# Altium footprint library buttons.PcbLib: 16 footprints
Each footprint in its own frame and in the unit in brackets; x right, y up, seen from the top. Pads: shape width x height; smd on the part's side, far side on the other; paste and mask are expansions set on the pad; w line width, h text height; cw(c..) or ccw(c..) is an arc to the next point about the centre after c.
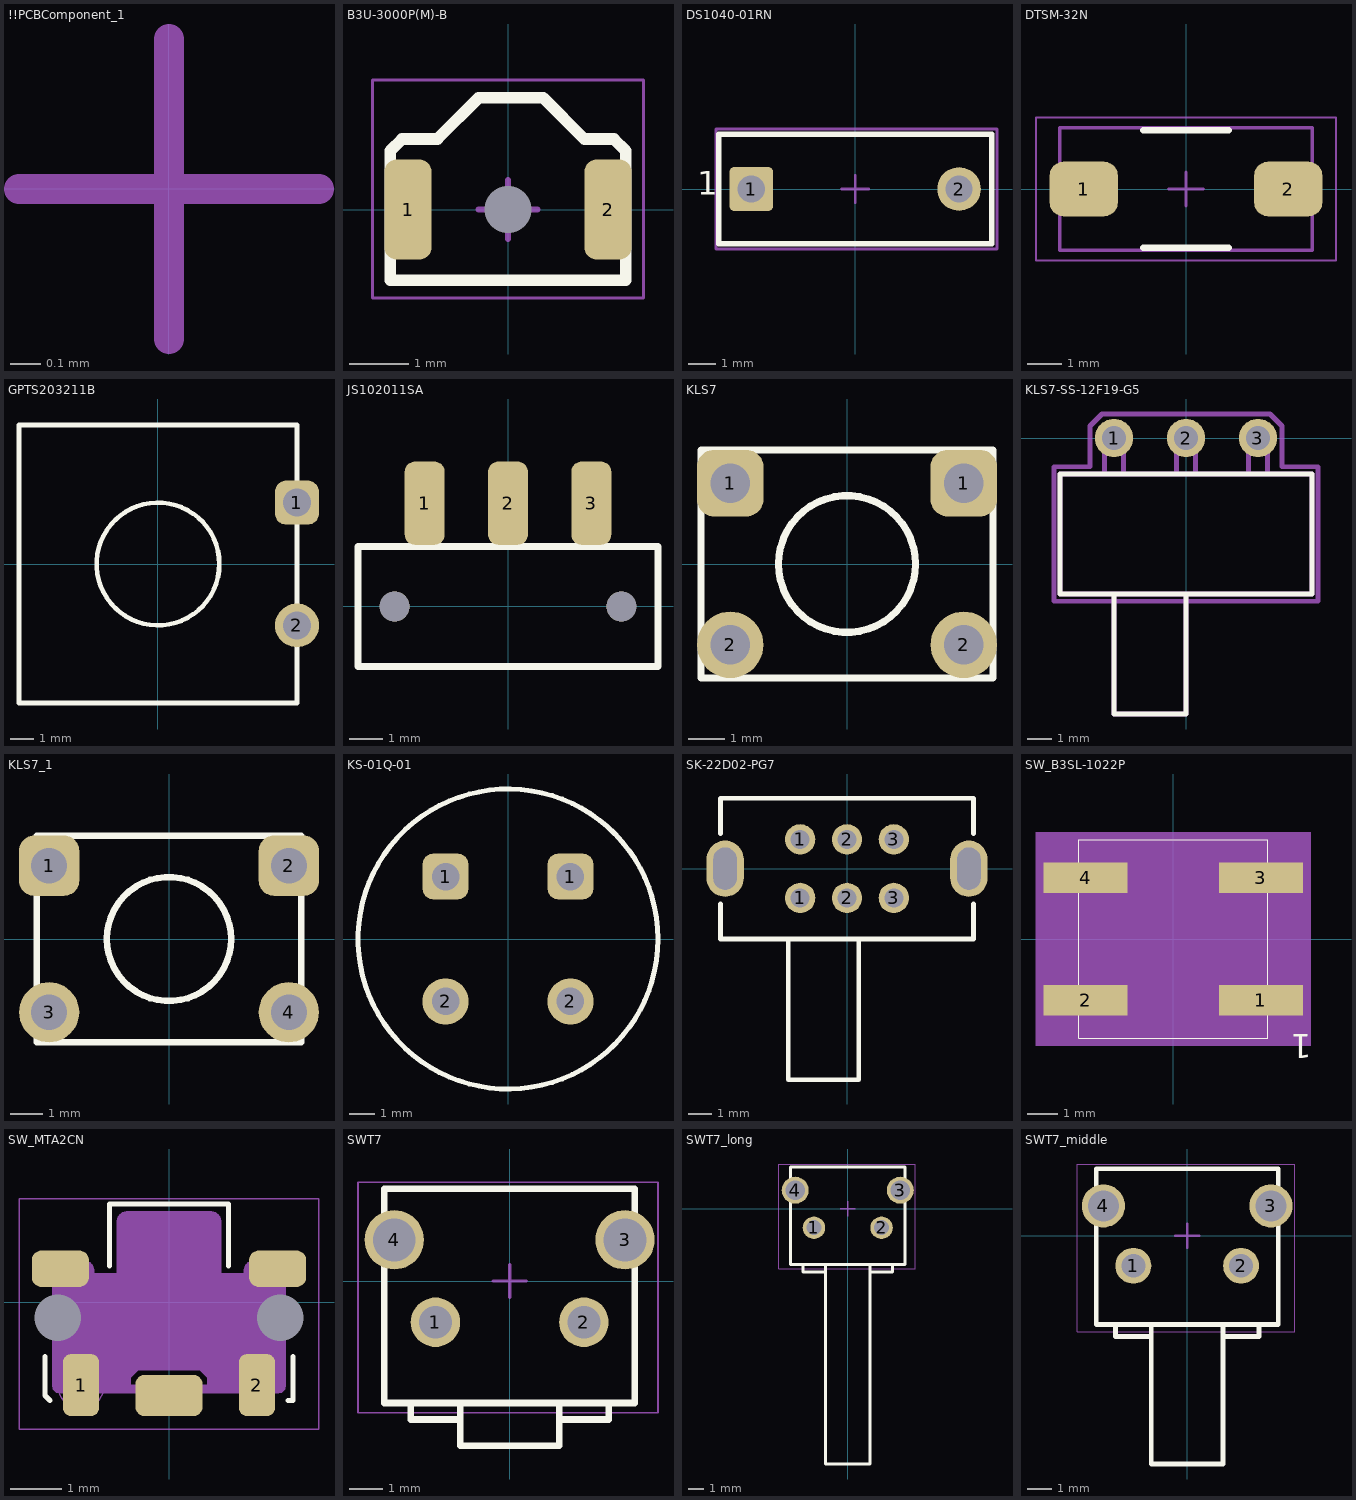
[diagram p0: the footprints below, top view; thin cyan lines are the x and y axes]

## !!PCBComponent_1 [mm]
M3_comm_top:
  text ".comment" at -0.9,-0.3 h1
M5_asm_top:
  text ".Designator" at -1,1.3 h1
M7_courtyard_top:
  lines w0.1: -0.5,0 0.5,0 ; 0,-0.5 0,0.5

## B3U-3000P(M)-B [mm] "B3U-3000P(M)-B"
height 1
pads (3):
  rrect50% 0.8x1.7 smd: 1(-1.7,0) 2(1.7,0)
  round 0.75 hole 0.8 unplated: ""(0,0)
Top Overlay:
  lines w0.2: -2,-1.2 -2,1 -1.8,1.2 -1.2,1.2 -0.5,1.9 0.6,1.9 1.3,1.2 1.8,1.2 2,1 2,-1.2 -2,-1.2
Mechanical 13:
  lines w0.1: -2,-1.2 2,-1.2 2,1 1.8,1.2 1.3,1.2 0.6,1.9 -0.5,1.9 -1.2,1.2 -1.8,1.2 -2,1 -2,-1.2
Mechanical 15:
  lines w0.05: -2.3,-1.5 -2.3,2.2 2.3,2.2 2.3,-1.5 -2.3,-1.5
  lines w0.1: -0.5,0 0.5,0 ; 0,-0.5 0,0.5
3D body "B3U_3000P[]_B.step": height 1.2, standoff -0.5, extent -2,-1.25 2,1.95

## DS1040-01RN [mm] "DS1040-01RN"
pads (2):
  rrect20% 1.6x1.6 hole 1: 1(-3.81,0)
  round 1.6 hole 1: 2(3.81,0)
Top Overlay:
  lines w0.2: -5,-2 5,-2 5,2 -5,2 -5,-2
  text "1" at -5.8,-0.5 h1.5
M3_comm_top:
  text ".comment" at -0.9,-0.3 h1
M5_asm_top:
  lines w0.1: -5,-2 -5,2 5,2 5,-2 -5,-2
  text ".Designator" at -1.3,2.3 h1
  text "1" at -5.8,-0.5 h1.5
M7_courtyard_top:
  lines w0.1: -0.5,0 0.5,0 ; 0,-0.5 0,0.5 ; -5.1,-2.2 -5.1,2.2 5.2,2.2 5.2,-2.2 -5.1,-2.2
3D body "User Library-DS1040-01 (DIP_switch).step": height 6.8, standoff -3.85, extent -4.95,-2 4.95,2

## DTSM-32N [mm] "TD-02XA (DTSM-32N)"
height 4
pads (2):
  rrect50% 2x1.6 smd: 1(-3,0) 2(3,0)
Top Overlay:
  lines w0.2: -1.25,-1.725 1.25,-1.725 ; -1.25,1.725 1.25,1.725
Mechanical 13:
  lines w0.1: -3.7,-1.8 3.7,-1.8 3.7,1.8 -3.7,1.8 -3.7,-1.8
Mechanical 15:
  lines w0.05: -4.4,-2.1 4.4,-2.1 4.4,2.1 -4.4,2.1 -4.4,-2.1
  lines w0.1: -0.5,0 0.5,0 ; 0,-0.5 0,0.5
3D body "User Library-dtsm-32n.step": height 5.55, standoff 0.05, extent -4,-1.75 4,1.75

## GPTS203211B [mm] "Switch; 2 Leads"
pads (2):
  rrect50% 1.9x1.9 hole 1.2: 1(6,2.65)
  round 1.9 hole 1.2: 2(6,-2.65)
Top Overlay:
  circle w0.2: c0,0 r2.65
  lines w0.2: -6,-6 6,-6 6,6 -6,6 -6,-6
3D body: height 6.5, standoff 0, extent -6,-6 6,6
3D body: height 4.5, standoff -3, extent 5.8,-3.1 6.2,-2.2
3D body: height 4.5, standoff -3, extent 5.8,2.2 6.2,3.1
3D body: height 9.2, standoff 0.1, extent -2.65,-2.65 2.65,2.65

## JS102011SA [mm] "JS102011SA"
pads (5):
  rrect50% 1.2x2.5 smd: 1(-2.5,3.1) 2(0,3.1) 3(2.5,3.1)
  round 0.9 hole 0.9 unplated: ""(-3.4,0) ""(3.4,0)
Top Overlay:
  lines w0.2: -4.5,-1.8 -4.5,1.8 4.5,1.8 4.5,-1.8 -4.5,-1.8
3D body: height 3.4, standoff 1.8, extent -2.5,-4 -1,-1.8
3D body: height 0, standoff -1, extent -3.797,-0.399 -3,0.399
3D body: height 0, standoff -1, extent 3.003,-0.399 3.8,0.399
3D body: height 3.5, standoff 0.01, extent -4.5,-1.8 4.5,1.8
3D body: height 0.3, standoff 0.01, extent -2.8,1.8 -2.2,4
3D body: height 0.3, standoff 0.01, extent -0.3,1.8 0.3,4
3D body: height 0.3, standoff 0.01, extent 2.2,1.8 2.8,4

## KLS7 [mm] "Switch; 4 Leads"
pads (4):
  rrect50% 1.85x1.85 hole 1.1: 1(-3.25,2.25) 1(3.25,2.25)
  round 1.85 hole 1.1: 2(-3.25,-2.25) 2(3.25,-2.25)
Top Overlay:
  circle w0.2: c0,0 r1.905
  lines w0.2: -4.064,-3.175 4.064,-3.175 4.064,3.175 -4.064,3.175 -4.064,-3.175
3D body "TS-1150-WP.STEP": height 5.2, standoff -3.3, extent -4.134,-3.25 4.134,3.25

## KLS7-SS-12F19-G5 [mm] "dart SS-12F27-G5, KLS7-SS-12F19-G5"
pads (3):
  round 1.6 hole 1 unplated: 1(-3,0) 2(0,0) 3(3,0)
Top Overlay:
  lines w0.2: -3,-6.5 -3,-11.5 0,-11.5 0,-6.5 ; -5.25,-6.5 5.25,-6.5 5.25,-1.5 -5.25,-1.5 -5.25,-6.5
M3_comm_top:
  text ".comment" at -0.9,-0.3 h1
M5_asm_top:
  lines w0.2: -3.4,-1.5 -3.4,0 -2.6,0 -2.6,-1.5 ; -3,-6.5 -3,-11.5 0,-11.5 0,-6.5 ; -0.4,-1.5 -0.4,0 0.4,0 0.4,-1.5 ; 2.6,-1.5 2.6,0 3.4,0 3.4,-1.5 ; -5.25,-6.5 -5.25,-1.5 5.25,-1.5 5.25,-6.5 -5.25,-6.5
  text ".Designator" at -1,1.3 h1
M7_courtyard_top:
  lines w0.2: -0.5,0 0.5,0 ; 0,-0.5 0,0.5 ; -5.5,-6.8 -5.5,-1.2 -4,-1.2 -4,0.5 -3.5,1 -2.6,1 2.6,1 3.5,1 4,0.5 4,-1.2 5.5,-1.2 5.5,-6.8 -5.5,-6.8
3D body: height 2.5, standoff -4, extent -3.4,-0.25 -2.6,0.25
3D body: height 4, standoff 1, extent -3,-11.5 0,-6.5
3D body: height 5.5, standoff 0, extent -5.2,-6.5 5.2,-1.5
3D body: height 2.5, standoff 2, extent -3.4,-1.5 -2.6,0.25
3D body: height 0.25, standoff -1.09, extent -3.1,-0.875 -3.1,-0.875
3D body: height 0.25, standoff -1.09, extent -3.2,-1.2 -3.2,-1.2
3D body: height 2.5, standoff 2, extent -0.4,-1.5 0.4,0.25
3D body: height 2.5, standoff -4, extent -0.4,-0.25 0.4,0.25
3D body: height 2.5, standoff 2, extent 2.6,-1.5 3.4,0.25
3D body: height 2.5, standoff -4, extent 2.6,-0.25 3.4,0.25

## KLS7_1 [mm] "Switch; 4 Leads"
pads (4):
  rrect50% 1.85x1.85 hole 1.1: 1(-3.68,2.25) 2(3.68,2.25)
  round 1.85 hole 1.1: 3(-3.68,-2.25) 4(3.68,-2.25)
Top Overlay:
  circle w0.2: c0,0 r1.905
  lines w0.2: -4.064,-3.175 -4.064,3.175 4.064,3.175 4.064,-3.175 -4.064,-3.175
3D body "TS-1150-WP.STEP": height 5.2, standoff -3.3, extent -4.134,-3.25 4.134,3.25

## KS-01Q-01 [mm] "Switch; 4 Leads"
pads (4):
  rrect50% 1.85x1.85 hole 1.1: 1(-2.5,2.5) 1(2.5,2.5)
  round 1.85 hole 1.1: 2(-2.5,-2.5) 2(2.5,-2.5)
Top Overlay:
  circle w0.2: c0,0 r6
3D body: height 7.35, standoff 0, extent -6,-6 6,6
3D body: height 14.35, standoff 0, extent -4.5,-4.5 4.5,4.5
3D body: height -1, standoff -4, extent -2.996,-2.999 -2,-2.001
3D body: height -1, standoff -4, extent 2.001,-2.996 2.999,-2
3D body: height -1, standoff -4, extent 2,2.001 2.996,2.999
3D body: height -1, standoff -4, extent -2.999,2 -2.001,2.996

## SK-22D02-PG7 [mm] "dart SK-22D02-PG7"
pads (8):
  round 1.3 hole 0.8 unplated: 1(-2,-1.25) 1(-2,1.25) 2(0,-1.25) 2(0,1.25) 3(2,-1.25) 3(2,1.25)
  oval 1.6x2.4 hole 1 slot 1.8 at 90 deg: ""(-5.2,0) ""(5.2,0)
Top Overlay:
  lines w0.2: -5.4,-1.5 -5.4,-3 5.4,-3 5.4,-1.5 ; -5.4,1.5 -5.4,3 5.4,3 5.4,1.5 ; -2.5,-3 -2.5,-9 0.5,-9 0.5,-3
3D body "Selector Switch - SK22D07.stp": height 4.73, standoff -2.79, extent -4.305,-7.577 4.305,3.447

## SW_B3SL-1022P [mm] "SW_B3SL-1022P"
pads (4):
  rect 2.75x1 smd: 1(2.875,-2) 2(-2.875,-2) 3(2.875,2) 4(-2.875,2)
Top Overlay:
  lines w0.025: -3.1,-3.25 3.1,-3.25 3.1,3.25 -3.1,3.25 -3.1,-3.25
  text "1" at 4.547,-3.124 h0.79
  text ".Designator" at -5.588,1.27 h0.99
Mechanical 16:
  region: -4.5,3.5 -4.5,-3.5 4.5,-3.5 4.5,3.5
  lines w0.025: -3.1,-3.25 3.1,-3.25 3.1,3.25 -3.1,3.25 -3.1,-3.25
Mechanical 32:
  text "CHECKED BY:" at 0,-24.892 h0.79
  text "BUILT BY:" at 0,-23.368 h0.79
  text "PAD:" at 0,-21.844 h0.79
  text "SYM:" at 0,-20.447 h0.79
  text "MFG:" at 0,-19.177 h0.79
  text "2" at -2.619,-2 h0.64
  text "1" at 3.131,-2 h0.64
  text "3" at 3.131,2 h0.64
  text "4" at -2.619,2 h0.64
3D body "b3sl-1002p.stp": height 3.4, standoff 0, extent -3.5,-3.25 3.5,3.25

## SW_MTA2CN [mm] "SW_MTA2CN"
pads (7):
  rrect45% 0.7x1.2 smd: 1(-1.7,-1.6) 2(1.7,-1.6)
  round 0.1 hole 0.9: " "(-2.15,-0.3) " "(2.15,-0.3)
  rrect50% 1.1x0.7 smd: " "(-2.1,0.65) " "(2.1,0.65)
  rrect45% 1.3x0.8 smd: " "(0,-1.8)
Top Overlay:
  lines w0.1: -2.4,-1.05 -2.4,-1.8 -2.3,-1.9 ; -1.15,0.7 -1.15,1.9 1.15,1.9 1.15,0.7 ; 2.3,-1.9 2.4,-1.9 2.4,-1.05
M11_dimension:
  text "2" at 1.7,-1.68 h0.2
  text "1" at -1.7,-1.68 h0.2
Mechanical 13:
  lines w0.025: -2.1,0.55 ccw(c-2.1,0.4) -2.25,0.4 -2.25,-1.6 ccw(c-2.1,-1.6) -2.1,-1.75 -0.075,-1.75 -0.075,-1.6 -0.75,-1.6 -0.75,-1.45 -0.6,-1.3 0.6,-1.3 0.75,-1.45 0.75,-1.6 0.075,-1.6 0.075,-1.75 2.1,-1.75 ccw(c2.1,-1.6) 2.25,-1.6 2.25,0.4 ccw(c2.1,0.4) 2.1,0.55 ; -2.1,0.55 2.1,0.55 ; -2.1,0.55 -2.1,0.6 cw(c-1.9,0.6) -1.9,0.8 -1.65,0.8 cw(c-1.65,0.6) -1.45,0.6 -1.45,0.55 -1,0.55 -1,1.55 cw(c-0.8,1.55) -0.8,1.75 0.8,1.75 cw(c0.8,1.55) 1,1.55 1,0.55 1.45,0.55 1.45,0.6 cw(c1.65,0.6) 1.65,0.8 1.9,0.8 cw(c1.9,0.6) 2.1,0.6 2.1,0.55
Mechanical 14:
  circle w0.025: c-1.7,-1.6 r0.45
  lines w0.025: -2.9,-2.45 -2.9,2 2.9,2 2.9,-2.45 -2.9,-2.45
Mechanical 15:
  drawing of 1 lines, arcs and shapes, not listed
Mechanical 17:
  text "COPYRIGHTS 2013 @ DYNAMIC PRECISION" at -3,2.15 h0.2
Mechanical 18:
  text "JOANNA MINKIEWICZ" at -2.5,-1.5 h0.2
Mechanical 19:
  text "ROBERT MITAL" at -2.5,-1.1 h0.2
Mechanical 20:
  text "2013-06-21" at -2.5,-1.85 h0.2
3D body "it-1188e.STEP": height 3.5, standoff -0.7, extent -3.877,-1.725 3.923,1.875

## SWT7 [mm]
height 1
pads (4):
  round 1.5 hole 1: 1(-2.25,-1.25) 2(2.25,-1.25)
  round 1.8 hole 1.3: 3(3.5,1.25) 4(-3.5,1.25)
Top Overlay:
  lines w0.2: -3,-3.7 -3,-4.2 -1.5,-4.2 ; -1.5,-3.7 -1.5,-5 1.5,-5 1.5,-3.7 ; 1.5,-4.2 3,-4.2 3,-3.7 ; -3.8,-3.7 3.8,-3.7 3.8,2.8 -3.8,2.8 -3.8,-3.7
Mechanical 13:
  lines w0.1: -3.8,-3.7 -3.8,2.8 3.8,2.8 3.8,-3.7 -3.8,-3.7
Mechanical 15:
  lines w0.05: -4.6,-4 -4.6,3 4.5,3 4.5,-4 -4.6,-4
  lines w0.1: -0.5,0 0.5,0 ; 0,-0.5 0,0.5
3D body "spst-no0.05.stp": height 7.5, standoff -3.4, extent -4.25,-5.05 4.25,2.85

## SWT7_long [mm] "SKHHNJ"
height 1
pads (4):
  round 1.5 hole 1: 1(-2.25,-1.25) 2(2.25,-1.25)
  round 1.8 hole 1.3: 3(3.5,1.25) 4(-3.5,1.25)
Top Overlay:
  lines w0.2: -3,-3.7 -3,-4.2 -1.5,-4.2 ; -1.5,-3.7 -1.5,-17 1.5,-17 1.5,-3.7 ; 1.5,-4.2 3,-4.2 3,-3.7 ; -3.8,-3.7 3.8,-3.7 3.8,2.8 -3.8,2.8 -3.8,-3.7
Mechanical 13:
  lines w0.1: -3.8,-3.7 -3.8,2.8 3.8,2.8 3.8,-3.7 -3.8,-3.7
Mechanical 15:
  lines w0.05: -4.6,-4 -4.6,3 4.5,3 4.5,-4 -4.6,-4
  lines w0.1: -0.5,0 0.5,0 ; 0,-0.5 0,0.5
3D body "43402.stp": height 7.4, standoff -3.5, extent -4.248,-17.08 4.248,2.82

## SWT7_middle [mm] "SKHHLR, 0795HIM-130G(TS-A4PV) (SWT3), Кнопка тактовая угловая h=8.35мм"
height 1
pads (4):
  round 1.5 hole 1: 1(-2.25,-1.25) 2(2.25,-1.25)
  round 1.8 hole 1.3: 3(3.5,1.25) 4(-3.5,1.25)
Top Overlay:
  lines w0.2: -3,-3.7 -3,-4.2 -1.5,-4.2 ; -1.5,-3.7 -1.5,-9.53 1.5,-9.53 1.5,-3.7 ; 1.5,-4.2 3,-4.2 3,-3.7 ; -3.8,-3.7 3.8,-3.7 3.8,2.8 -3.8,2.8 -3.8,-3.7
Mechanical 13:
  lines w0.1: -3.8,-3.7 -3.8,2.8 3.8,2.8 3.8,-3.7 -3.8,-3.7
Mechanical 15:
  lines w0.05: -4.6,-4 -4.6,3 4.5,3 4.5,-4 -4.6,-4
  lines w0.1: -0.5,0 0.5,0 ; 0,-0.5 0,0.5
3D body "SKHHLR.stp": height 7.5, standoff -3.4, extent -4.25,-9.53 4.25,2.87